# Altium footprint library ife19_TS_BMS_v2.PcbLib: 2 footprints
Each footprint in its own frame and in the unit in brackets; x right, y up, seen from the top. Pads: shape width x height; smd on the part's side, far side on the other; paste and mask are expansions set on the pad; w line width, h text height; cw(c..) or ccw(c..) is an arc to the next point about the centre after c.
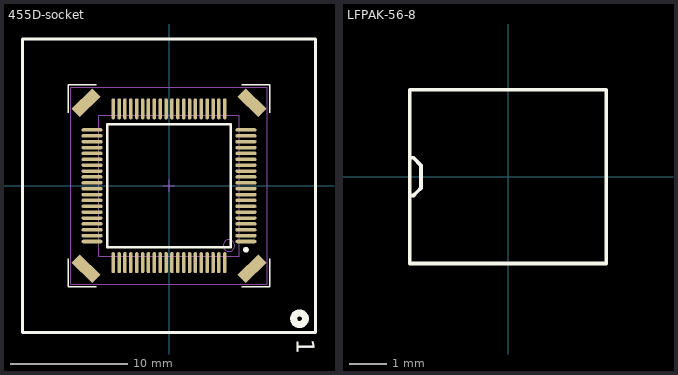
[diagram p0: the footprints below, top view; thin cyan lines are the x and y axes]

## 455D-socket [mm] "Dual footprint for socket with ability to also solder part."
height 8
pads (84):
  oval 1.8x0.3 smd: 1(6.55,-4.75) 2(6.55,-4.25) 3(6.55,-3.75) 4(6.55,-3.25) 5(6.55,-2.75) 6(6.55,-2.25) 7(6.55,-1.75) 8(6.55,-1.25) 9(6.55,-0.75) 10(6.55,-0.25) 11(6.55,0.25) 12(6.55,0.75) 13(6.55,1.25) 14(6.55,1.75) 15(6.55,2.25) 16(6.55,2.75) 17(6.55,3.25) 18(6.55,3.75) 19(6.55,4.25) 20(6.55,4.75) 41(-6.55,4.75) 42(-6.55,4.25) 43(-6.55,3.75) 44(-6.55,3.25) 45(-6.55,2.75) 46(-6.55,2.25) 47(-6.55,1.75) 48(-6.55,1.25) 49(-6.55,0.75) 50(-6.55,0.25) 51(-6.55,-0.25) 52(-6.55,-0.75) 53(-6.55,-1.25) 54(-6.55,-1.75) 55(-6.55,-2.25) 56(-6.55,-2.75) 57(-6.55,-3.25) 58(-6.55,-3.75) 59(-6.55,-4.25) 60(-6.55,-4.75)
  oval 0.3x1.8 smd: 21(4.75,6.55) 22(4.25,6.55) 23(3.75,6.55) 24(3.25,6.55) 25(2.75,6.55) 26(2.25,6.55) 27(1.75,6.55) 28(1.25,6.55) 29(0.75,6.55) 30(0.25,6.55) 31(-0.25,6.55) 32(-0.75,6.55) 33(-1.25,6.55) 34(-1.75,6.55) 35(-2.25,6.55) 36(-2.75,6.55) 37(-3.25,6.55) 38(-3.75,6.55) 39(-4.25,6.55) 40(-4.75,6.55) 61(-4.75,-6.55) 62(-4.25,-6.55) 63(-3.75,-6.55) 64(-3.25,-6.55) 65(-2.75,-6.55) 66(-2.25,-6.55) 67(-1.75,-6.55) 68(-1.25,-6.55) 69(-0.75,-6.55) 70(-0.25,-6.55) 71(0.25,-6.55) 72(0.75,-6.55) 73(1.25,-6.55) 74(1.75,-6.55) 75(2.25,-6.55) 76(2.75,-6.55) 77(3.25,-6.55) 78(3.75,-6.55) 79(4.25,-6.55) 80(4.75,-6.55)
  rect 1x2.5 smd rot 45: ""(-7.071,-7.071) ""(7.071,7.071)
  rect 1x2.5 smd rot 135: ""(-7.071,7.071) ""(7.071,-7.071)
Top Overlay:
  circle w0.6: c11.117,-11.328 r0.5
  circle w0.25: c6.55,-5.45 r0.125
  lines w0.127: -8.6,-6.212 -8.6,-8.6 -6.212,-8.6 ; -8.6,6.212 -8.6,8.6 -6.212,8.6 ; 6.212,-8.6 8.6,-8.6 8.6,-6.212 ; 6.212,8.6 8.6,8.6 8.6,6.212
  lines w0.2: -5.25,-5.25 5.25,-5.25 5.25,5.25 -5.25,5.25 -5.25,-5.25
  lines w0.254: -12.5,-12.5 12.5,-12.5 12.5,12.5 -12.5,12.5 -12.5,-12.5
  text "1" at 10.897,-13.056 h1.52
Top Solder:
  pour cut-out: -12.5,12.5 12.5,12.5 12.5,-12.5 -12.5,-12.5
Mechanical 5:
  text ".Designator" at -4.064,-0.508 h1.02
Mechanical 13:
  circle w0.1: c5.1,-5.1 r0.5
  lines w0.1: -6,-6 6,-6 6,6 -6,6 -6,-6
Mechanical 15:
  lines w0.1: -0.5,0 0.5,0 ; 0,-0.5 0,0.5 ; -8.382,-8.382 8.382,-8.382 8.382,8.382 -8.382,8.382 -8.382,-8.382
3D body: height 1.2, standoff 0, extent -6,-6 6,6

## LFPAK-56-8 [mm] "Power SO-8 package from Nexperia"
height 1.05
pads (6):
  rrect20% 0.7x1.15 on Top Solder: B1(-0.635,-3.275) B2(1.905,-3.275) E1(-1.905,-3.275) E2(0.635,-3.275)
  rrect20% 1.97x5.4 on Top Solder: C1(-1.27,0.5) C2(1.27,0.5)
Top Overlay:
  lines w0.1: -2.6,-0.5 -2.5,-0.5 -2.4,-0.4 -2.3,-0.3 -2.3,0.3 -2.5,0.5 -2.6,0.5 ; -2.6,-2.3 -2.6,2.3 2.6,2.3 2.6,-2.3 -2.5,-2.3 -2.6,-2.3
3D body "SOT1205.step": height 1.15, standoff 0.05, extent -2.55,-3.56 2.55,2.6
3D body: height 1.27, standoff 0, extent -2.6,2.3 -2.6,2.3
3D body: height 0.25, standoff 0, extent 0,0 0,0